# Altium integrated library Linear Technology Power Management Switching Regulator LTC1174-LTC3901.IntLib: 2647 symbols (part 31 of 364)
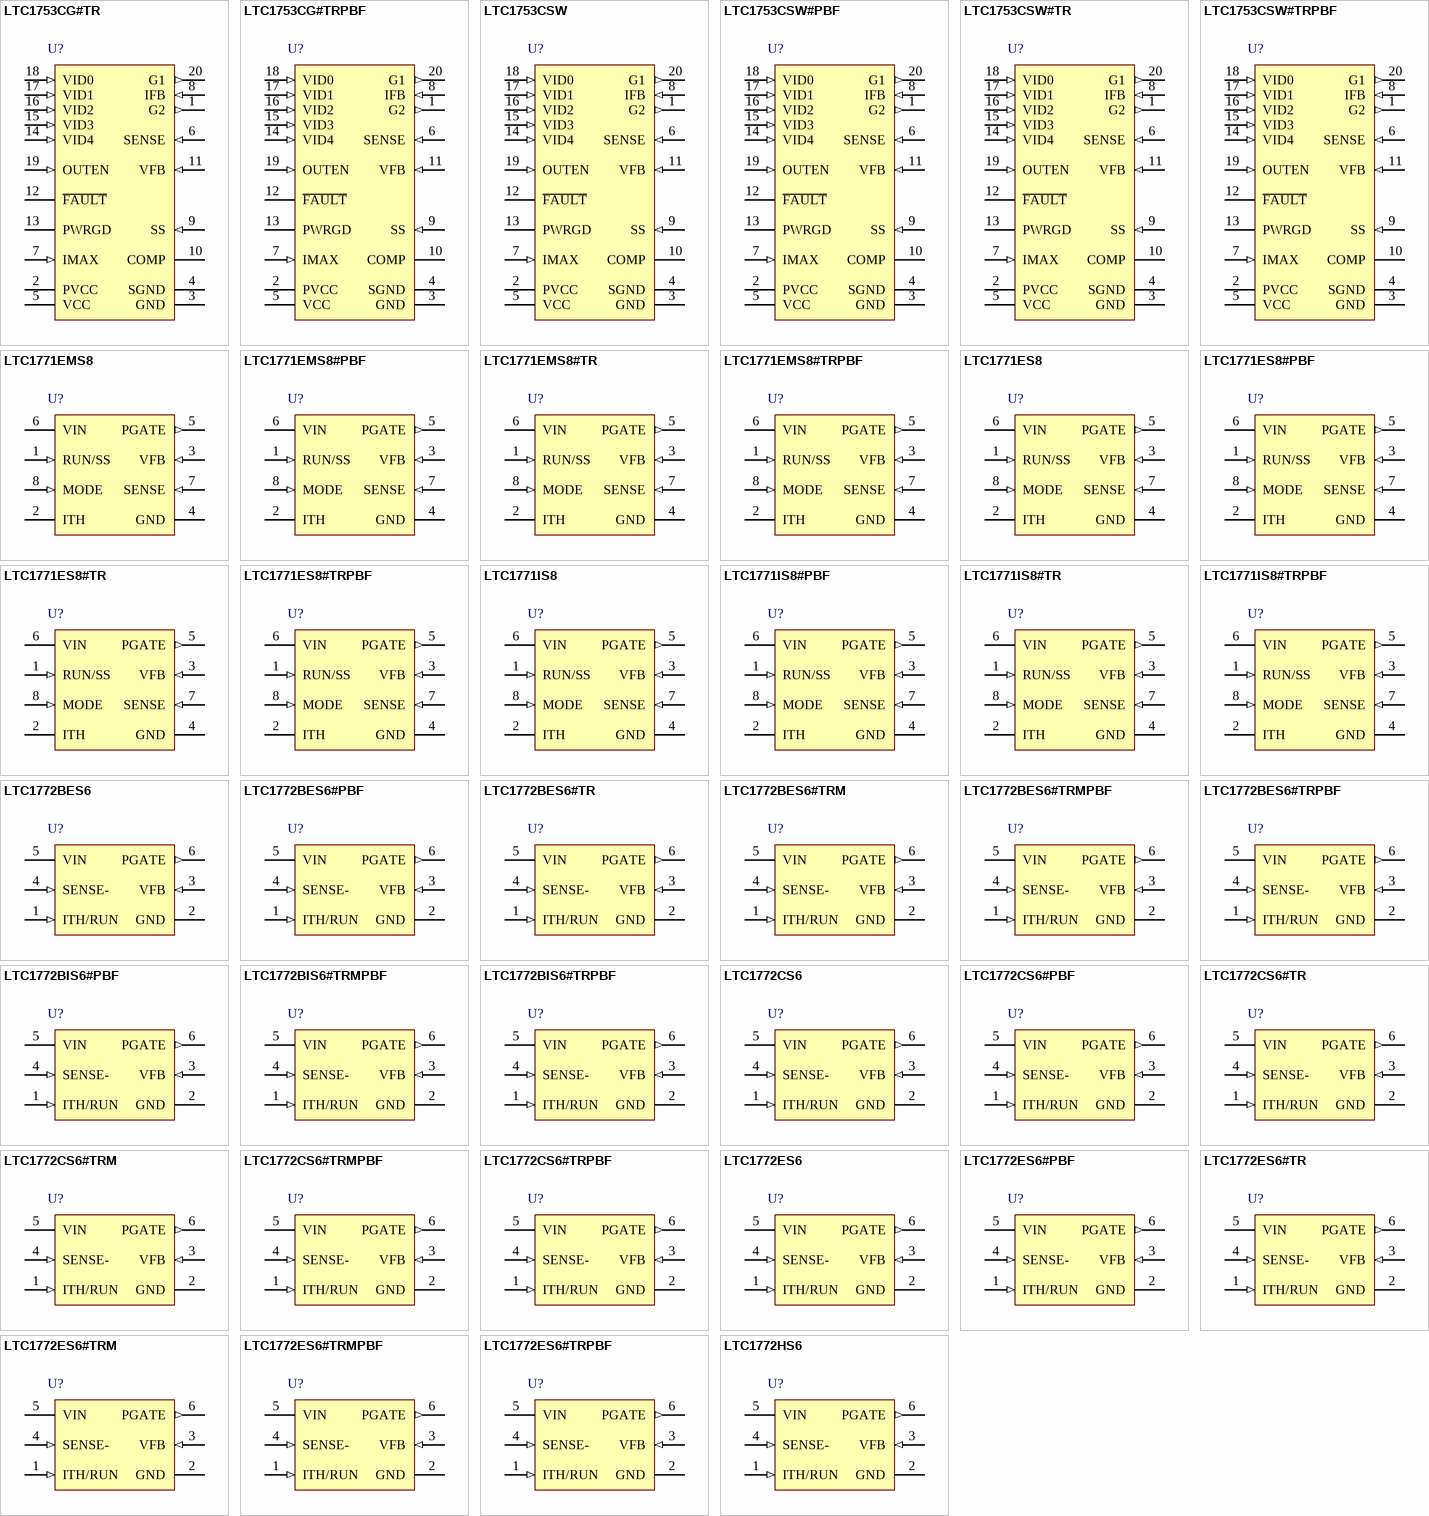
[diagram p231: symbols LTC1753CG#TR to LTC1772HS6]

## LTC1753CSW
designator U?
5-Bit Programmable Synchronous Switching Regulator Controller for Pentium(R) II Processor, 20-pin SOIC (SW-20), 0 to 70 degC; Manufacturer: Linear Technology; PartNumber: LTC1753CSW; Number of Outputs: 1; DatasheetVersion: Rev. A; PackageVersion: Jun-10; PackageReference: SW-20; PackageDescription: 20-Pin Plastic Small Outline, Body 12.80 x 7.49 mm, Pitch 1.27 mm; Supplier 1: Digi-Key; Supplier Part Number 1: LTC1753CSW-ND; RoHS: FALSE; Mounting Technology: Surface Mount; ComponentLink1Description: Manufacturer URL; ComponentLink1URL: http://www.linear.com/; ComponentLink2Description: Datasheet; ComponentLink2URL: http://cds.linear.com/docs/en/datasheet/1753fa.pdf; ComponentLink3Description: Package Specification; ComponentLink3URL: http://cds.linear.com/docs/en/packaging/SO_20_05-08-1620.pdf
footprint LT-SW-20_N (SOIC, 20-Leads, Body 12.8x7.49mm, Pitch 1.27mm, IPC Medium Density)
footprint LT-SW-20_L (SOIC, 20-Leads, Body 12.8x7.49mm, Pitch 1.27mm, IPC High Density)
footprint LT-SW-20_M (SOIC, 20-Leads, Body 12.8x7.49mm, Pitch 1.27mm, IPC Low Density)
pins: 1 G2 (out) "Gate Drive for the Lower N-Channel MOSFET, Q2. This output will swing from PVCC to GND. It will always be low when G1 is high or when the output is disabled. To prevent undershoot during a soft-start cycle, G2 is held low (See Datasheet)", 2 PVCC (power) "Power Supply for G1 and G2. PVCC must be connected to a potential of at least VIN + VGS(ON)Q1. For normal applications, connect PVCC to a 12V power supply or generate PVCC using a simple charge pump.", 3 GND (power) "Power Ground. GND should be connected to a low impedance ground plane in close proximity to the source of Q2.", 4 SGND (power) "Signal Ground. SGND is connected to the low power internal circuitry and should be connected to the negative terminal of the output capacitor where it returns to the ground plane. GND and SGND should be shorted directly at (See Datasheet)", 5 VCC (power) "Power Supply. Power for the internal low power circuity. VCC should be wired separately from the drain of Q1 if they share the same supply. A 10uF bypass capacitor is recommended from this pin to SGND.", 6 SENSE (in) "Output Voltage Pin. Connect to the positive terminal of the output capacitor. There is an internal 108k resistor connected from this pin to SGND. SENSE is a very sensitive pin; for optimum performance, connect an external (See Datasheet)", 7 IMAX (in) "Current Limit Threshold. Current limit is set by the voltage drop across an external resistor connected between the drain of Q1 and IMAX. There is a 190uA internal pull-down at IMAX.", 8 IFB (in) "Current Limit Sense Pin. Connect to the switching node between the source of Q1 and the drain of Q2. If IFB drops below IMAX when G1 is on, the LTC1753 will go into current limit. The current limit circuit can be disabled by (See Datasheet)", 9 SS (in) "Soft-Start. Connect to an external capacitor to implement a soft-start function. During moderate overload conditions, the soft-start capacitor will be discharged slowly in order to reduce the duty cycle. In hard current (See Datasheet)", 10 COMP "External Compensation. The COMP pin is connected directly to the output of the error amplifier and the input of the PWM comparator. An RC+C network is used at this node to compensate the feedback loop to provide optimum (See Datasheet)", 11 VFB (in) "Voltage Feedback. VFB is the tap point of the internal resistor divider connected from SENSE to SGND. During rapid and heavy output loading conditions, a small capacitor between the SENSE and VFB pin creates a feedforward (See Datasheet)", 12 ~{FAULT} (oc) "Overvoltage Fault. F\A\U\L\T\ is an opendrain output. If VOUT reaches 13% above the nominal output voltage, F\A\U\L\T\ will go low and G1 and G2 will be disabled. Once triggered, the LTC1753 will remain in this state until (See Datasheet)", 13 PWRGD (oc) "Power Good. This is an open-drain signal to indicate validity of output voltage. A high indicates that the output has settled to within +/-3% of the rated output for more than 1ms. PWRGD will go low if the output is out of (See Datasheet)", 14 VID4 (in) "Digital Voltage Select. TTL inputs used to set the regulated output voltage required by the processor (Table 2). There is an internal 20kohm pull-up at each pin. When all five VIDn pins are high or floating, the chip will (See Datasheet)", 15 VID3 (in) "Digital Voltage Select. TTL inputs used to set the regulated output voltage required by the processor (Table 2). There is an internal 20kohm pull-up at each pin. When all five VIDn pins are high or floating, the chip will (See Datasheet)", 16 VID2 (in) "Digital Voltage Select. TTL inputs used to set the regulated output voltage required by the processor (Table 2). There is an internal 20kohm pull-up at each pin. When all five VIDn pins are high or floating, the chip will (See Datasheet)", 17 VID1 (in) "Digital Voltage Select. TTL inputs used to set the regulated output voltage required by the processor (Table 2). There is an internal 20kohm pull-up at each pin. When all five VIDn pins are high or floating, the chip will (See Datasheet)", 18 VID0 (in) "Digital Voltage Select. TTL inputs used to set the regulated output voltage required by the processor (Table 2). There is an internal 20kohm pull-up at each pin. When all five VIDn pins are high or floating, the chip will (See Datasheet)", 19 OUTEN (in) "Output Enable. TTL input which enables the output voltage. The external MOSFET temperature can be monitored with an external thermistor as shown in Figure 11. When the OUTEN input voltage drops below 1.7V, the drivers are (See Datasheet)", 20 G1 (out) "Gate Drive for the Upper N-Channel MOSFET, Q1. This output will swing from PVCC to GND. It will always be low when G2 is high or the output is disabled."